# EAGLE library part HEADER_01X37 (library MF_Connectors)
Library: MF_Connectors Description: Header Connector with 37 Positions and 01 Rows. Use the LABEL Attribute to label the pin on the schematic and PCB. You can remove the attributes on the PCB by using the SMASH function on the part and then deleting the text.
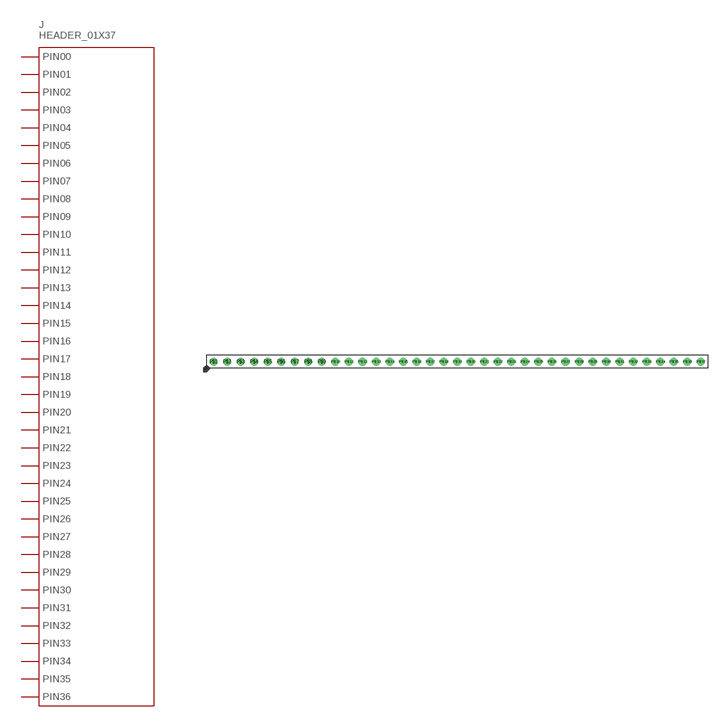
[diagram p33: symbol with the pads of PTH_2.54MM_01X37; footprint PTH_2.54MM_01X37]

Designator prefix J

## HEADER_01X37_PTH_2.54MM  [PTH_2.54MM_01X37]
P$1  PIN0
P$2  PIN1
P$3  PIN2
P$4  PIN3
P$5  PIN4
P$6  PIN5
P$7  PIN6
P$8  PIN7
P$9  PIN8
P$10  PIN9
P$11  PIN10
P$12  PIN11
P$13  PIN12
P$14  PIN13
P$15  PIN14
P$16  PIN15
P$17  PIN16
P$18  PIN17
P$19  PIN18
P$20  PIN19
P$21  PIN20
P$22  PIN21
P$23  PIN22
P$24  PIN23
P$25  PIN24
P$26  PIN25
P$27  PIN26
P$28  PIN27
P$29  PIN28
P$30  PIN29
P$31  PIN30
P$32  PIN31
P$33  PIN32
P$34  PIN33
P$35  PIN34
P$36  PIN35
P$37  PIN36

## Footprint PTH_2.54MM_01X37 (pad centres in mm)
Description: Package for 2.54MM Pitch Header 37 Position. Based on 4UCON 00834.
drill 1: P$1 -45.72,0; P$2 -43.18,0; P$3 -40.64,0; P$4 -38.1,0; P$5 -35.56,0; P$6 -33.02,0; P$7 -30.48,0; P$8 -27.94,0; P$9 -25.4,0; P$10 -22.86,0; P$11 -20.32,0; P$12 -17.78,0; P$13 -15.24,0; P$14 -12.7,0; P$15 -10.16,0; P$16 -7.62,0; P$17 -5.08,0; P$18 -2.54,0; P$19 0,0; P$20 2.54,0; P$21 5.08,0; P$22 7.62,0; P$23 10.16,0; P$24 12.7,0; P$25 15.24,0; P$26 17.78,0; P$27 20.32,0; P$28 22.86,0; P$29 25.4,0; P$30 27.94,0; P$31 30.48,0; P$32 33.02,0; P$33 35.56,0; P$34 38.1,0; P$35 40.64,0; P$36 43.18,0; P$37 45.72,0